# EAGLE library part 61000618221 (library Board_to_Board_Connectors_rev15d)
WR-PHD 2.54mm SMT Pin Header, 6 Pins =>Code : Con_BTB_PHD_2.54_1_SMT_61000618221 <http://katalog.we-online.de/media/images/eican/Con_BTB_PHD_2.54_1_SMT_6100xx18221_pf2.jpg> Details see: http://katalog.we-online.de/en/em/610_0xx_182_21 Created 2014-05-29, Karrer Zheng 2014 (C) Würth Elektronik
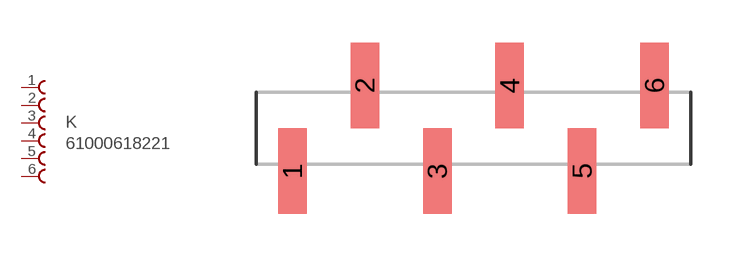
[diagram p61: symbol with the pads of 61000618221; footprint 61000618221]

Designator prefix K

## 61000618221  [61000618221]
1  1  pas
2  2  pas
3  3  pas
4  4  pas
5  5  pas
6  6  pas

## Footprint 61000618221 (pad centres in mm)
WR-PHD 2.54mm SMT Pin Header, 6 Pins
smd 1 x 3: 1 -6.35,-1.5; 2 -3.81,1.5; 3 -1.27,-1.5; 4 1.27,1.5; 5 3.81,-1.5; 6 6.35,1.5